# EAGLE library part 68713514022 (library Eagle_FPC_CONNECTOR_AND_FFC_CAB (rev18c))
WR-FPC 0.5mm SMT ZIF Horizontal Top Contact, 35 Pins=>Code : Con_FPC_ZIF_0.50_68713514022 <http://katalog.we-online.de/media/images/eican/Con_FPC_ZIF_0.50_6871xx14022_pf2.jpg> Details see: http://katalog.we-online.de/en/em/687_1xx_140_22 Created 2014-07-09, Karrer Zheng 2014 (C) Würth Elektronik
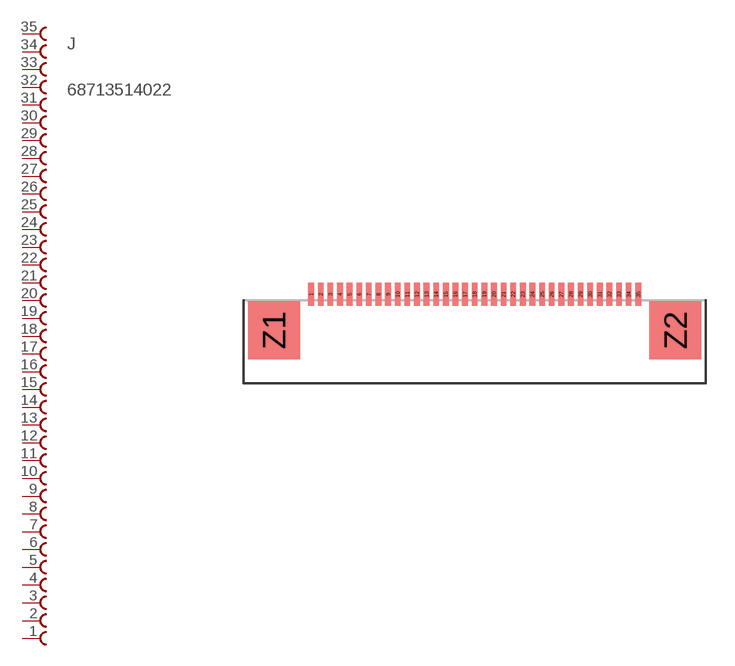
[diagram p33: symbol with the pads of 68713514022; footprint 68713514022]

Designator prefix J

## 68713514022  [68713514022]
1  35  pas
2  34  pas
3  33  pas
4  32  pas
5  31  pas
6  30  pas
7  29  pas
8  28  pas
9  27  pas
10  26  pas
11  25  pas
12  24  pas
13  23  pas
14  22  pas
15  21  pas
16  20  pas
17  19  pas
18  18  pas
19  17  pas
20  16  pas
21  15  pas
22  14  pas
23  13  pas
24  12  pas
25  11  pas
26  10  pas
27  9  pas
28  8  pas
29  7  pas
30  6  pas
31  5  pas
32  4  pas
33  3  pas
34  2  pas
35  1  pas

## Footprint 68713514022 (pad centres in mm)
WR-FPC 0.5mm SMT ZIF Horizontal Top Contact, 35 Pins
smd 0.3 x 1.2: 1 -8.75,1.86; 2 -8.25,1.86; 3 -7.75,1.86; 4 -7.25,1.86; 5 -6.75,1.86; 6 -6.25,1.86; 7 -5.75,1.86; 8 -5.25,1.86; 9 -4.75,1.86; 10 -4.25,1.86; 11 -3.75,1.86; 12 -3.25,1.86; 13 -2.75,1.86; 14 -2.25,1.86; 15 -1.75,1.86; 16 -1.25,1.86; 17 -0.75,1.86; 18 -0.25,1.86; 19 0.25,1.86; 20 0.75,1.86; 21 1.25,1.86; 22 1.75,1.86; 23 2.25,1.86; 24 2.75,1.86; 25 3.25,1.86; 26 3.75,1.86; 27 4.25,1.86; 28 4.75,1.86; 29 5.25,1.86; 30 5.75,1.86; 31 6.25,1.86; 32 6.75,1.86; 33 7.25,1.86; 34 7.75,1.86; 35 8.25,1.86
smd 2.7 x 3: Z1 -10.68,0; Z2 10.18,0